# Altium schematic symbol library AtmelSensorBoards.SchLib: 2 symbols
Pins are listed as number, name and electrical type; pins without a type are passive.

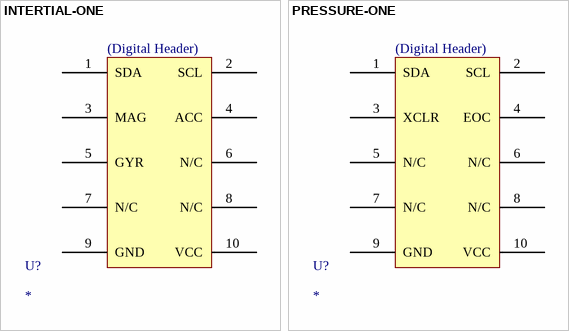
[diagram p0: symbols INTERTIAL-ONE to PRESSURE-ONE]

## INTERTIAL-ONE
designator U?
footprint ATMEL-SENS
pins: 1 SDA, 2 SCL, 3 MAG, 4 ACC, 5 GYR, 6 N/C, 7 N/C, 8 N/C, 9 GND, 10 VCC
text: (Digital Header)

## PRESSURE-ONE
designator U?
footprint ATMEL-SENS
pins: 1 SDA, 2 SCL, 3 XCLR, 4 EOC, 5 N/C, 6 N/C, 7 N/C, 8 N/C, 9 GND, 10 VCC
text: (Digital Header)